# Altium schematic symbol library Oscillators.SchLib: 25 symbols
Pins are listed as number, name and electrical type; pins without a type are passive.

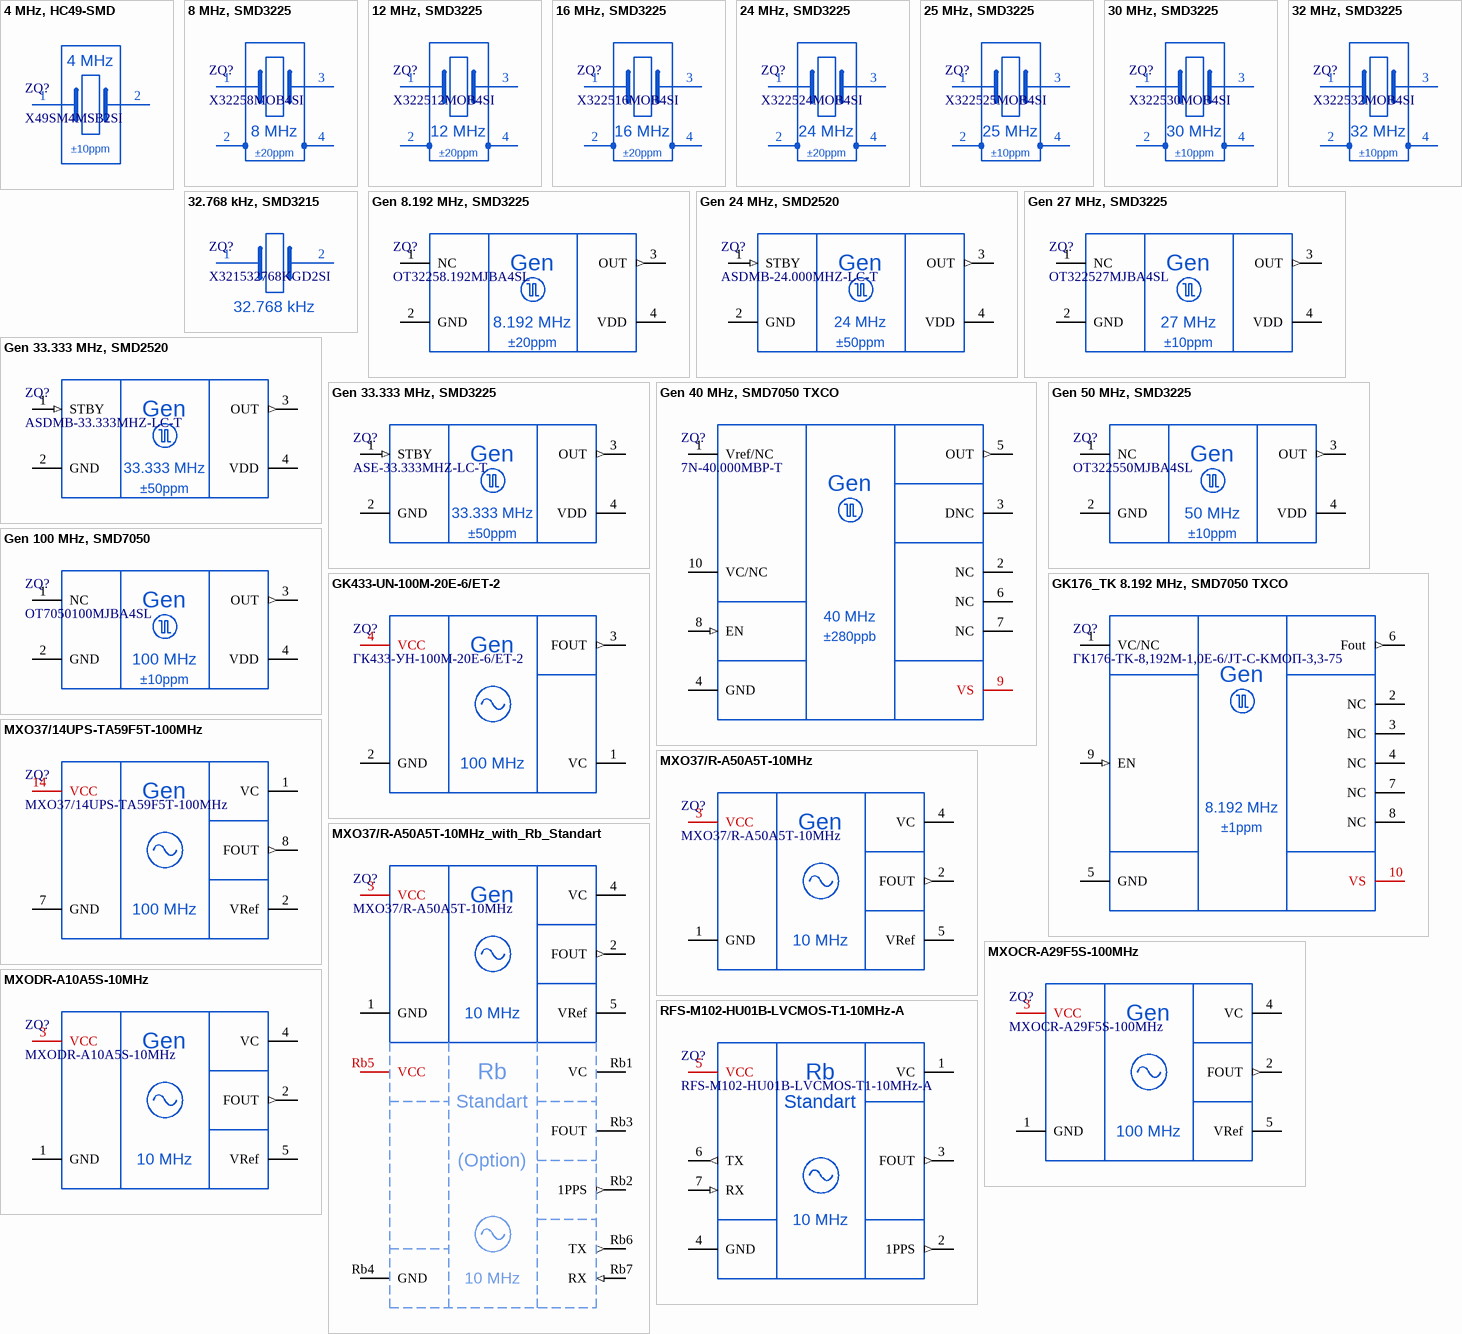
[diagram p0: symbols 4 MHz, HC49-SMD to RFS-M102-HU01B-LVCMOS-T1-10MHz-A]

## 4 MHz, HC49-SMD
designator ZQ?, comment X49SM4MSB2SI
Quartz Crystal 4 MHz; Manufacturer: YXC; AltManufacturer1: Abracon LLC; Load Capacitance: 20 pF; Frequency Tolerance: ±10ppm; Frequency Stability: ±30ppm; ESR (Equivalent Series Resistance): 180 Ohms; Operating Mode: Fundamental; ItemType: Oscillator; Alternative1: ABLS-4.000MHZ-12-B-4-Y-T; PartNumber: X49SM4MSB2SI; Package: HC49SMD; ItemSubType: Crystal; Mounting: SMD
footprint HC-49SMD (HC-49SMD crystal package)
pins: 1 XTAL0, 2 XTAL1
text: 4 MHz

## 8 MHz, SMD3225
designator ZQ?, comment X32258MOB4SI
Quartz Crystal 8 MHz; Manufacturer: YXC; Load Capacitance: 12 pF; Frequency Tolerance: ±20ppm; Frequency Stability: ±30ppm; ESR (Equivalent Series Resistance): 70 Ohms; Operating Mode: Fundamental; ItemType: Oscillator; PartNumber: X32258MOB4SI; Package: SMD3225; ItemSubType: Crystal; Mounting: SMD
footprint SMD3225_YXC (Crystall/Oscillatpr 3.2mm x 2.5mm)
pins: 1 XTAL0, 2 GND, 3 XTAL1, 4 GND
text: 8 MHz

## 12 MHz, SMD3225
designator ZQ?, comment X322512MOB4SI
Quartz Crystal 12 MHz; Manufacturer: YXC; Load Capacitance: 12 pF; Frequency Tolerance: ±20ppm; Frequency Stability: ±30ppm; ESR (Equivalent Series Resistance): 80 Ohms; Operating Mode: Fundamental; ItemType: Oscillator; PartNumber: X322512MOB4SI; Package: SMD3225; ItemSubType: Crystal; Mounting: SMD
footprint SMD3225_YXC (Crystall/Oscillatpr 3.2mm x 2.5mm)
pins: 1 XTAL0, 2 GND, 3 XTAL1, 4 GND
text: 12 MHz

## 16 MHz, SMD3225
designator ZQ?, comment X322516MOB4SI
Quartz Crystal 16 MHz; Manufacturer: YXC; Load Capacitance: 12 pF; Frequency Tolerance: ±20ppm; Frequency Stability: ±30ppm; ESR (Equivalent Series Resistance): 80 Ohms; Operating Mode: Fundamental; ItemType: Oscillator; PartNumber: X322516MOB4SI; Package: SMD3225; ItemSubType: Crystal; Mounting: SMD
footprint SMD3225_YXC (Crystall/Oscillatpr 3.2mm x 2.5mm)
pins: 1 XTAL0, 2 GND, 3 XTAL1, 4 GND
text: 16 MHz

## 24 MHz, SMD3225
designator ZQ?, comment X322524MOB4SI
Quartz Crystal 24 MHz; Manufacturer: YXC; Load Capacitance: 12 pF; Frequency Tolerance: ±20ppm; Frequency Stability: ±30ppm; ESR (Equivalent Series Resistance): 80 Ohms; Operating Mode: Fundamental; ItemType: Oscillator; PartNumber: X322524MOB4SI; Package: SMD3225; ItemSubType: Crystal; Mounting: SMD
footprint SMD3225_YXC (Crystall/Oscillatpr 3.2mm x 2.5mm)
pins: 1 XTAL0, 2 GND, 3 XTAL1, 4 GND
text: 24 MHz

## 25 MHz, SMD3225
designator ZQ?, comment X322525MOB4SI
Quartz Crystal 25 MHz; Manufacturer: YXC; Load Capacitance: 12 pF; Frequency Tolerance: ±10ppm; Frequency Stability: ±30ppm; ESR (Equivalent Series Resistance): 80 Ohms; Operating Mode: Fundamental; ItemType: Oscillator; PartNumber: X322525MOB4SI; Package: SMD3225; ItemSubType: Crystal; Mounting: SMD
footprint SMD3225_YXC (Crystall/Oscillatpr 3.2mm x 2.5mm)
pins: 1 XTAL0, 2 GND, 3 XTAL1, 4 GND
text: 25 MHz

## 30 MHz, SMD3225
designator ZQ?, comment X322530MOB4SI
Quartz Crystal 30 MHz; Manufacturer: YXC; Load Capacitance: 12 pF; Frequency Tolerance: ±10ppm; Frequency Stability: ±20ppm; ESR (Equivalent Series Resistance): 50 Ohms; Operating Mode: Fundamental; ItemType: Oscillator; PartNumber: X322530MOB4SI; Package: SMD3225; ItemSubType: Crystal; Mounting: SMD
footprint SMD3225_YXC (Crystall/Oscillatpr 3.2mm x 2.5mm)
pins: 1 XTAL0, 2 GND, 3 XTAL1, 4 GND
text: 30 MHz

## 32 MHz, SMD3225
designator ZQ?, comment X322532MOB4SI
Quartz Crystal 32 MHz; Manufacturer: YXC; Load Capacitance: 12 pF; Frequency Tolerance: ±10ppm; Frequency Stability: ±20ppm; ESR (Equivalent Series Resistance): 50 Ohms; Operating Mode: Fundamental; ItemType: Oscillator; PartNumber: X322532MOB4SI; Package: SMD3225; ItemSubType: Crystal; Mounting: SMD
footprint SMD3225_YXC (Crystall/Oscillatpr 3.2mm x 2.5mm)
pins: 1 XTAL0, 2 GND, 3 XTAL1, 4 GND
text: 32 MHz

## 32.768 kHz, SMD3215
designator ZQ?, comment X321532768KGD2SI
Quartz Crystal 32768 Hz; Manufacturer: YXC; Load Capacitance: 12.5 pF; Frequency Tolerance: ±20ppm; Frequency Stability: ±30ppm; ESR (Equivalent Series Resistance): 70 Ohms; Operating Mode: Fundamental; ItemType: Oscillator; PartNumber: X321532768KGD2SI; Package: SMD3215; ItemSubType: Crystal; Mounting: SMD
footprint YST310S
pins: 1 XTAL0, 2 XTAL1
text: 32.768 kHz

## Gen 8.192 MHz, SMD3225
designator ZQ?, comment OT32258.192MJBA4SL
Clock Oscillator (Frequency Stability ±20ppm); Manufacturer: YXC; AltManufacturer1: SJK; Supply Voltage Nom: 1.8..3.3V; OutputType: CMOS; OscillatorType: XO; ItemSubType: Generator; Alternative1: 3N08192G33YC; PartNumber: OT32258.192MJBA4SL; Package: SMD3225; Frequency Stability: ±20ppm; ItemType: Oscillator; Mounting: SMD
footprint SMD3225_YXC (Crystall/Oscillatpr 3.2mm x 2.5mm)
pins: 1 NC (hiz), 2 GND, 3 OUT (out), 4 VDD (power)
text: Gen; 8.192 MHz

## Gen 24 MHz, SMD2520
designator ZQ?, comment ASDMB-24.000MHZ-LC-T
1.8..3.3V Clock Oscillator (Frequency Stability ±50ppm); Manufacturer: Abracon; OutputType: CMOS; OscillatorType: XO; ItemSubType: Generator; PartNumber: ASDMB-24.000MHZ-LC-T; Package: SMD3225; Supply Voltage Nom: 1.8..3.3V; Frequency Stability: ±50ppm; ItemType: Oscillator; Mounting: SMD
footprint SMD2520_ASDMB_ABRACON (Crystall/Clock Oscillator 2.5mm x 2.0mm)
pins: 1 STBY (in), 2 GND, 3 OUT (out), 4 VDD (power)
text: Gen; 24 MHz

## Gen 27 MHz, SMD3225
designator ZQ?, comment OT322527MJBA4SL
Clock Oscillator (Frequency Stability ±10ppm); Manufacturer: YXC; Supply Voltage Nom: 1.8..3.3V; ItemSubType: Generator; PartNumber: OT322527MJBA4SL; Package: SMD3225; Frequency Stability: ±10ppm; ItemType: Oscillator; Mounting: SMD
footprint SMD3225_YXC (Crystall/Oscillatpr 3.2mm x 2.5mm)
pins: 1 NC (hiz), 2 GND, 3 OUT (out), 4 VDD (power)
text: Gen; 27 MHz

## Gen 33.333 MHz, SMD2520
designator ZQ?, comment ASDMB-33.333MHZ-LC-T
1.8..3.3V Clock Oscillator (Frequency Stability ±50ppm); Manufacturer: Abracon; OutputType: CMOS; OscillatorType: XO; ItemSubType: Generator; PartNumber: ASDMB-33.333MHZ-LC-T; Package: SMD3225; Supply Voltage Nom: 1.8..3.3V; Frequency Stability: ±50ppm; ItemType: Oscillator; Mounting: SMD
footprint SMD2520_ASDMB_ABRACON (Crystall/Clock Oscillator 2.5mm x 2.0mm)
pins: 1 STBY (in), 2 GND, 3 OUT (out), 4 VDD (power)
text: Gen; 33.333 MHz

## Gen 33.333 MHz, SMD3225
designator ZQ?, comment ASE-33.333MHZ-LC-T
Clock Oscillator (Frequency Stability ±50ppm); Manufacturer: Abracon; AltManufacturer1: Kyocera AVX; Supply Voltage Nom: 1.8..3.3V; OutputType: CMOS; OscillatorType: XO; ItemSubType: Generator; Alternative1: KC3225K33.3333C1GE00; PartNumber: ASE-33.333MHZ-LC-T; Package: SMD3225; Frequency Stability: ±50ppm; ItemType: Oscillator; Mounting: SMD
footprint SMD3225_ASE_ABRACON (Crystall/Clock Oscillator 3.2mm x 2.5mm)
pins: 1 STBY (in), 2 GND, 3 OUT (out), 4 VDD (power)
text: Gen; 33.333 MHz

## Gen 40 MHz, SMD7050 TXCO
designator ZQ?, comment 7N-40.000MBP-T
Precise Temperature Compensated Clock Oscillator (Frequency Stability ±280ppb); Manufacturer: TXC; Supply Voltage Nom: 3.3V; OutputType: CMOS; OscillatorType: TXCO; ItemSubType: Generator; PartNumber: 7N-40.000MBP-T; Package: SMD7050_10P; Frequency Stability: ±280ppb; ItemType: Oscillator; Mounting: SMD
footprint SMD7050_10P (TXCO Clock Oscillator 7.0mm x 5.0mm)
pins: 1 Vref/NC, 2 NC (hiz), 3 DNC (hiz), 4 GND, 5 OUT (out), 6 NC (hiz), 7 NC (hiz), 8 EN (in), 9 VS (power), 10 VC/NC
text: Gen; 40 MHz

## Gen 50 MHz, SMD3225
designator ZQ?, comment OT322550MJBA4SL
Clock Oscillator (Frequency Stability ±10ppm); Manufacturer: YXC; Supply Voltage Nom: 1.8..3.3V; OutputType: CMOS; OscillatorType: XO; ItemSubType: Generator; PartNumber: OT322550MJBA4SL; Package: SMD3225; Frequency Stability: ±10ppm; ItemType: Oscillator; Mounting: SMD
footprint SMD3225_YXC (Crystall/Oscillatpr 3.2mm x 2.5mm)
pins: 1 NC (hiz), 2 GND, 3 OUT (out), 4 VDD (power)
text: Gen; 50 MHz

## Gen 100 MHz, SMD7050
designator ZQ?, comment OT7050100MJBA4SL
Clock Oscillator (Frequency Stability ±10ppm); Manufacturer: YXC; Supply Voltage Nom: 1.8..3.3V; OutputType: CMOS; OscillatorType: XO; ItemSubType: Generator; PartNumber: OT7050100MJBA4SL; Package: SMD7050; Frequency Stability: ±10ppm; ItemType: Oscillator; Mounting: SMD
footprint SMD7050_YXC (Crystall/Clock Oscillator 7.0mm x 5.0mm)
pins: 1 NC (hiz), 2 GND, 3 OUT (out), 4 VDD (power)
text: Gen; 100 MHz

## GK176_TK 8.192 MHz, SMD7050 TXCO
designator ZQ?, comment ГК176-TK-8,192M-1,0E-6/JT-C-KMOП-3,3-75
Precise Temperature Compensated Clock Oscillator; Manufacturer: Морион; Supply Voltage Nom: 3.3V; Frequency Stability: ±1ppm; OutputType: CMOS; OscillatorType: TXCO; ItemSubType: Generator; PartNumber: ГК176-TK-8,192M-1,0E-6/JT-C-KMOП-3,3-75; Package: ГК176-ТК; ItemType: Oscillator; Mounting: SMD
footprint GK176_TK_8.192M (TXCO Clock Oscillator 7.0mm x 5.0mm)
pins: 1 VC/NC, 2 NC (hiz), 3 NC (hiz), 4 NC (hiz), 5 GND, 6 Fout (out), 7 NC (hiz), 8 NC (hiz), 9 EN (in), 10 VS (power)
text: Gen; 8.192 MHz

## GK433-UN-100M-20E-6/ET-2
designator ZQ?, comment ГК433-УН-100М-20Е-6/ЕТ-2
3.3V High stability oscillator 100 MHz; Manufacturer: Морион; ItemSubType: Generator; PartNumber: ГК433-УН-100М-20Е-6/ЕТ-2; Package: 9x14 mm; ItemType: Oscillator; Mounting: SMD
footprint GK433_UN (High stability VCXO)
pins: 1 VC, 2 GND, 3 FOUT (out), 4 VCC (power)
text: Gen; 100 MHz

## MXO37/14UPS-TA59F5T-100MHz
designator ZQ?
High stability oscillator 100 MHz; Manufacturer: Мэджик Кристалл; ItemSubType: Generator; PartNumber: MXO37/14UPS-TA59F5T-100MHz; Package: 20.2x14.6 mm; ItemType: Oscillator; Mounting: SMD
footprint MXO37_14UP (High stability oscillator)
pins: 1 VC, 2 VRef, 7 GND, 8 FOUT (out), 14 VCC (power)
text: Gen; 100 MHz

## MXO37/R-A50A5T-10MHz
designator ZQ?
High stability oscillator 10 MHz; Manufacturer: Мэджик Кристалл; ItemSubType: Generator; PartNumber: MXO37/R-A50A5T-10MHz; Package: 20.2x20.2 mm; ItemType: Oscillator; Mounting: THT
footprint MXO37R (High stability oscillator)
pins: 1 GND, 2 FOUT (out), 3 VCC (power), 4 VC, 5 VRef
text: Gen; 10 MHz

## MXO37/R-A50A5T-10MHz_with_Rb_Standart
designator ZQ?, comment MXO37/R-A50A5T-10MHz
High stability oscillator 10 MHz; Manufacturer: Мэджик Кристалл; ItemSubType: Generator; PartNumber: MXO37/R-A50A5T-10MHz; Package: 20.2x20.2 mm; ItemType: Oscillator; Mounting: THT
footprint MXO37R_with_RFS-M102 (High stability oscillator)
pins: 1 GND, 2 FOUT (out), 3 VCC (power), 4 VC, 5 VRef, Rb1 VC, Rb2 1PPS (out), Rb3 FOUT, Rb4 GND, Rb5 VCC (power), Rb6 TX (out), Rb7 RX (in)
text: Gen; 10 MHz; Rb; Standart; (Option)

## MXOCR-A29F5S-100MHz
designator ZQ?
High stability oscillator 100 MHz; Manufacturer: Мэджик Кристалл; ItemSubType: Generator; PartNumber: MXOCR-A29F5S-100MHz; Package: 20.2x20.2 mm; ItemType: Oscillator; Mounting: THT
footprint MXOCR (High stability oscillator)
pins: 1 GND, 2 FOUT (out), 3 VCC (power), 4 VC, 5 VRef
text: Gen; 100 MHz

## MXODR-A10A5S-10MHz
designator ZQ?
High stability oscillator 10 MHz; Manufacturer: Мэджик Кристалл; ItemSubType: Generator; PartNumber: MXODR-A10A5S-10MHz; Package: 20.2x20.2 mm; ItemType: Oscillator; Mounting: THT
footprint MXODR (High stability oscillator)
pins: 1 GND, 2 FOUT (out), 3 VCC (power), 4 VC, 5 VRef
text: Gen; 10 MHz

## RFS-M102-HU01B-LVCMOS-T1-10MHz-A
designator ZQ?
Miniature size Rb frequency standard 10 MHz; Manufacturer: Morion; ItemType: Oscillator; ItemSubType: Rb Standard; PartNumber: RFS-M102-HU01B-LVCMOS-T1-10MHz-A; Package: 50.4x50.4 mm; Mounting: THT
footprint RFS-M102 (Rb frequency standard)
pins: 1 VC, 2 1PPS (out), 3 FOUT (out), 4 GND, 5 VCC (power), 6 TX (out), 7 RX (in)
text: Rb; Standart; 10 MHz